# Altium integrated library Altera Cyclone IV E.IntLib: 141 symbols (part 29 of 33)

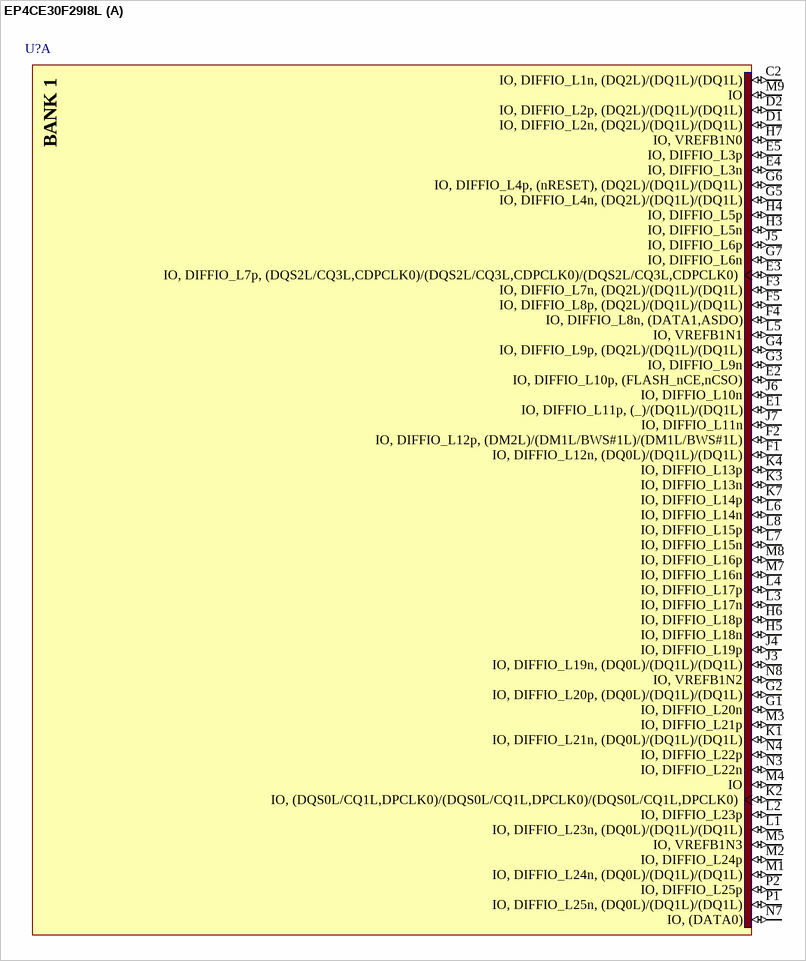
[diagram p160: symbol EP4CE30F29I8L]

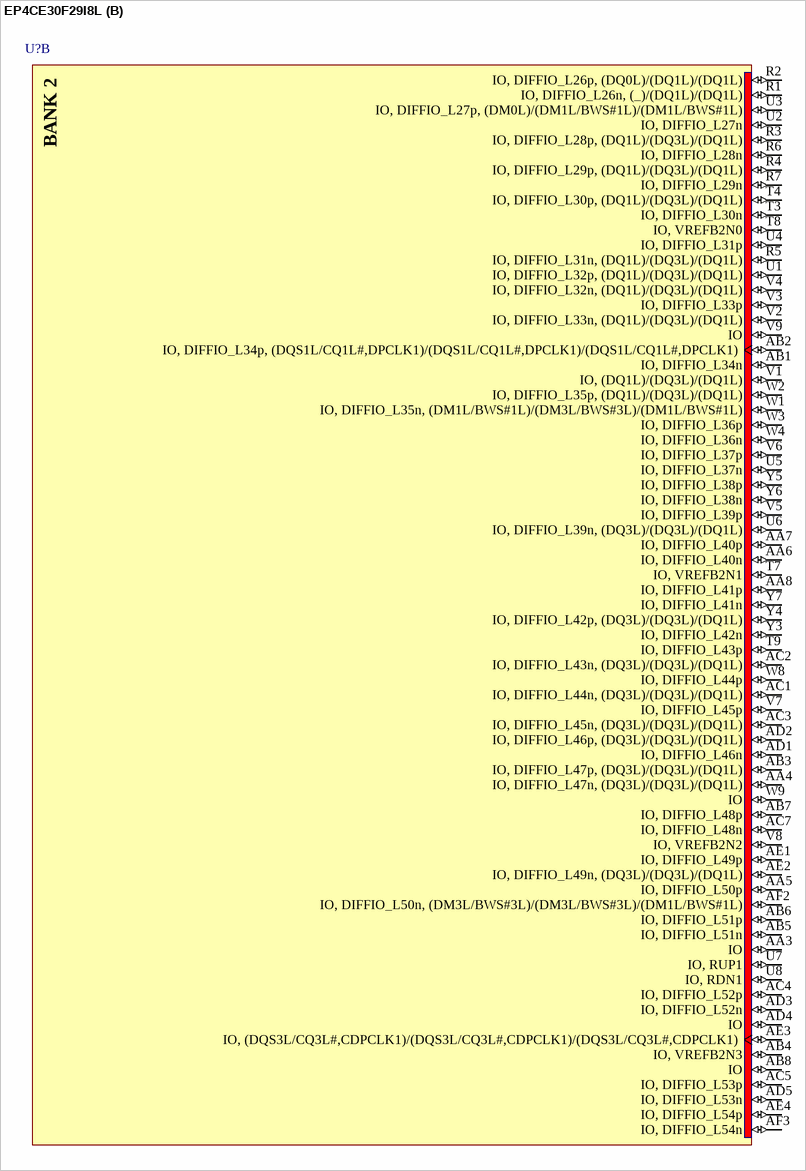
[diagram p161: symbol EP4CE30F29I8L]

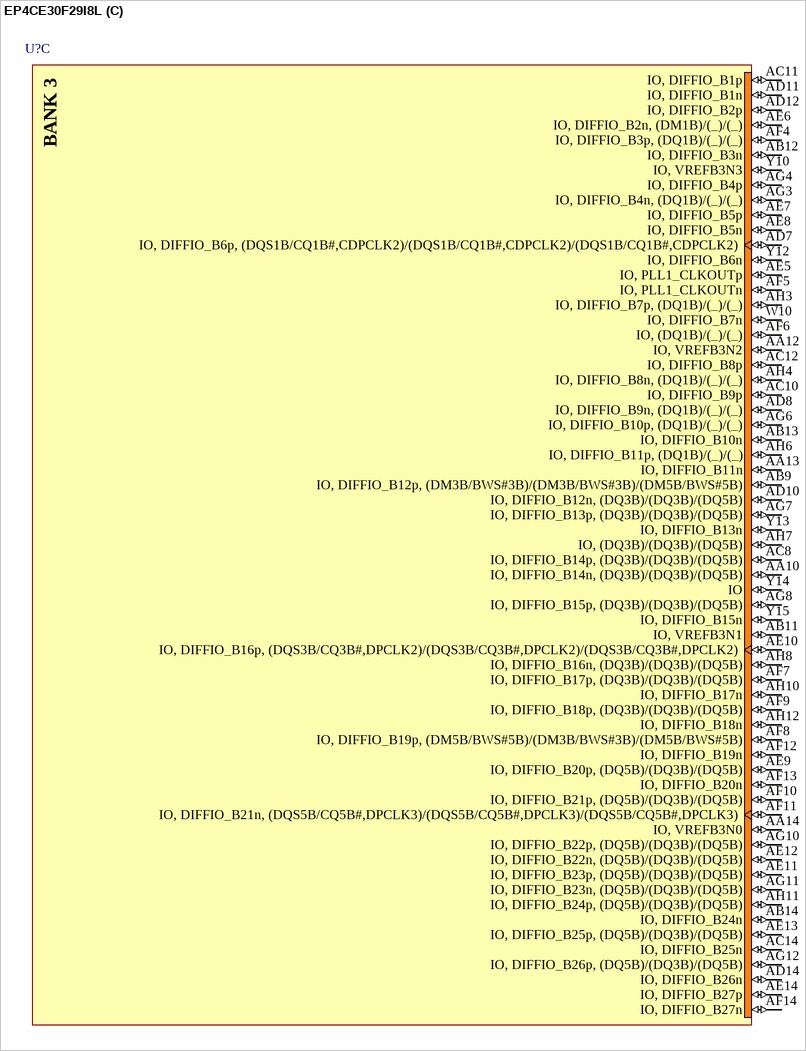
[diagram p162: symbol EP4CE30F29I8L]

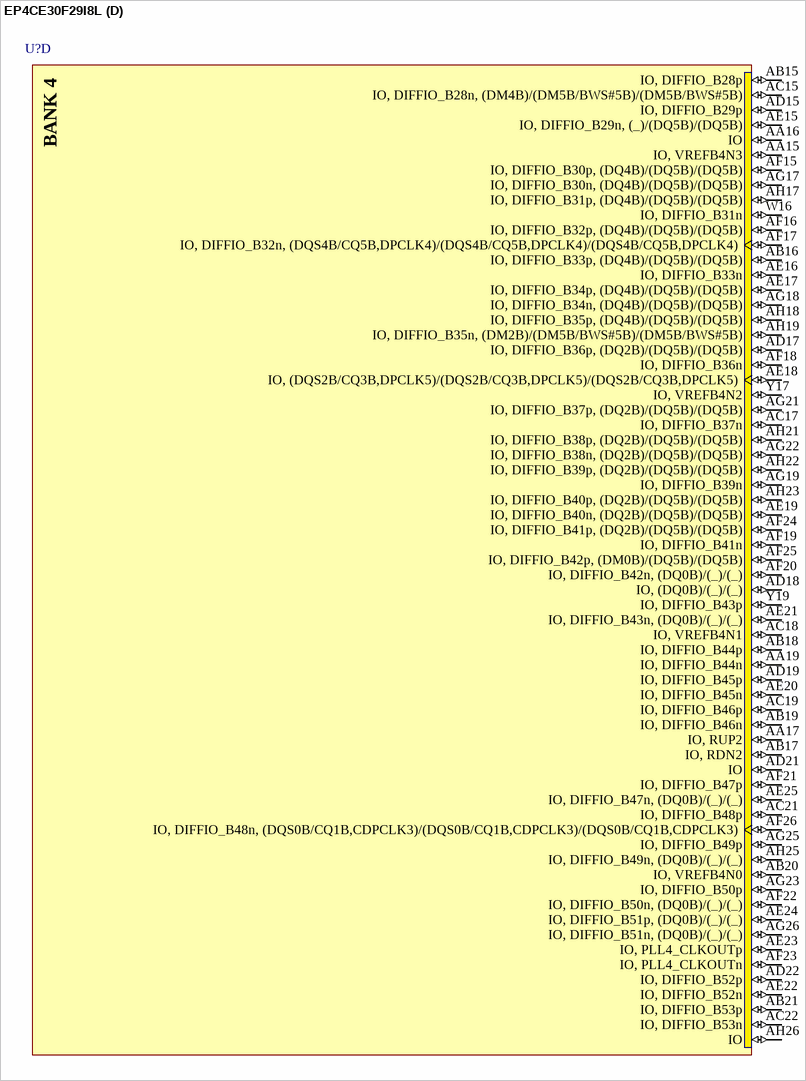
[diagram p163: symbol EP4CE30F29I8L]

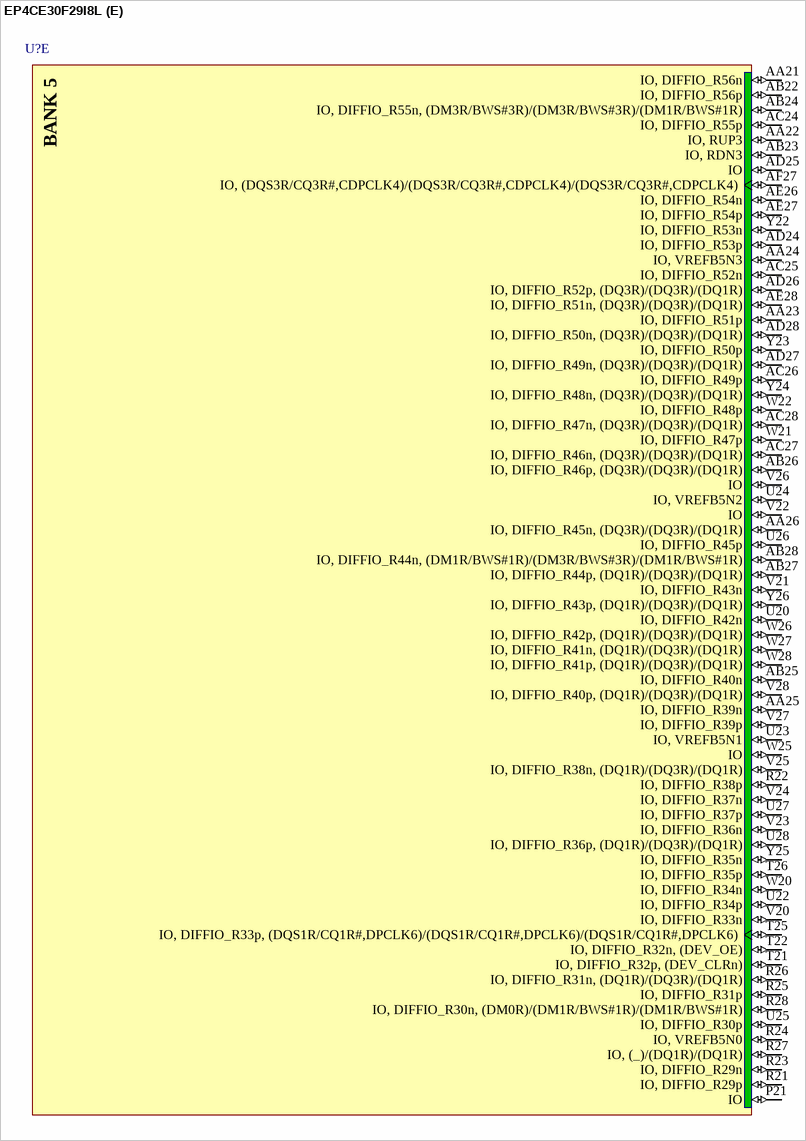
[diagram p164: symbol EP4CE30F29I8L]

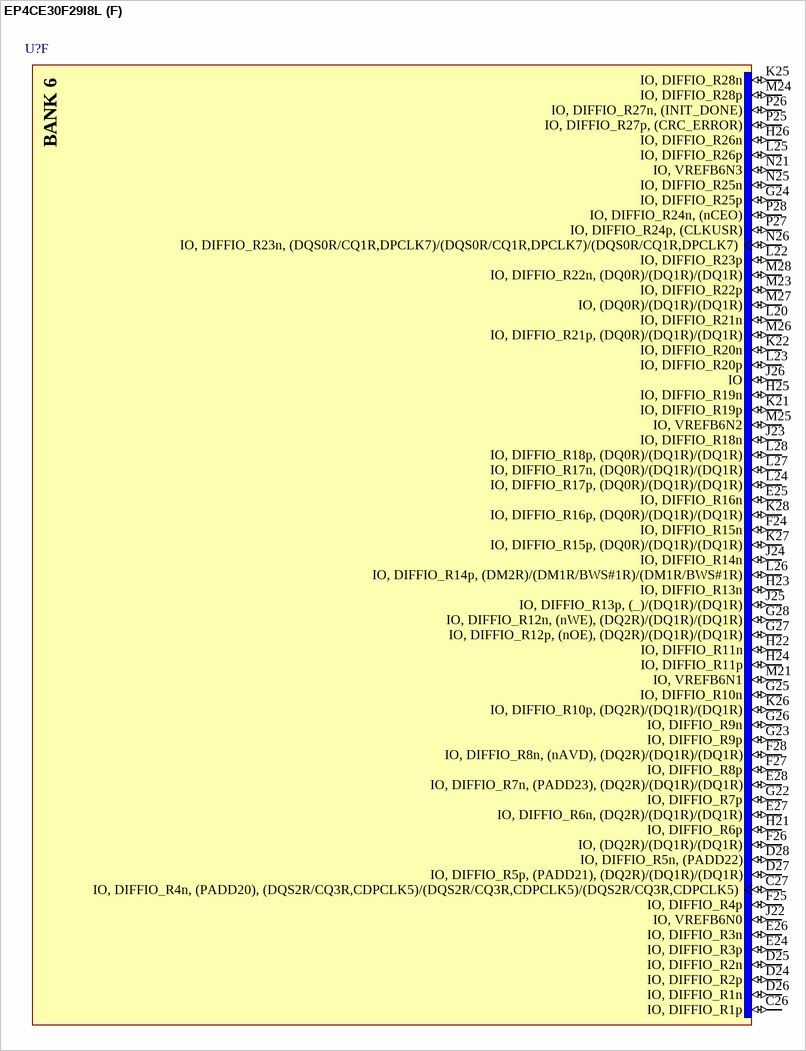
[diagram p165: symbol EP4CE30F29I8L]

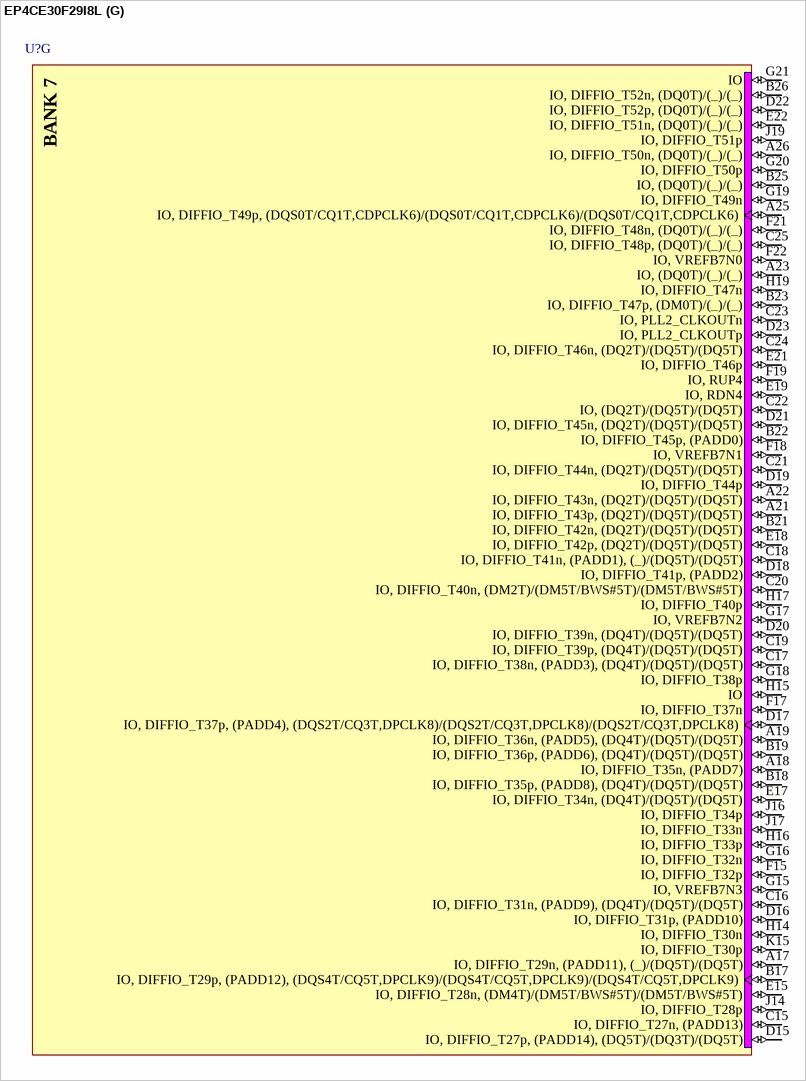
[diagram p166: symbol EP4CE30F29I8L]

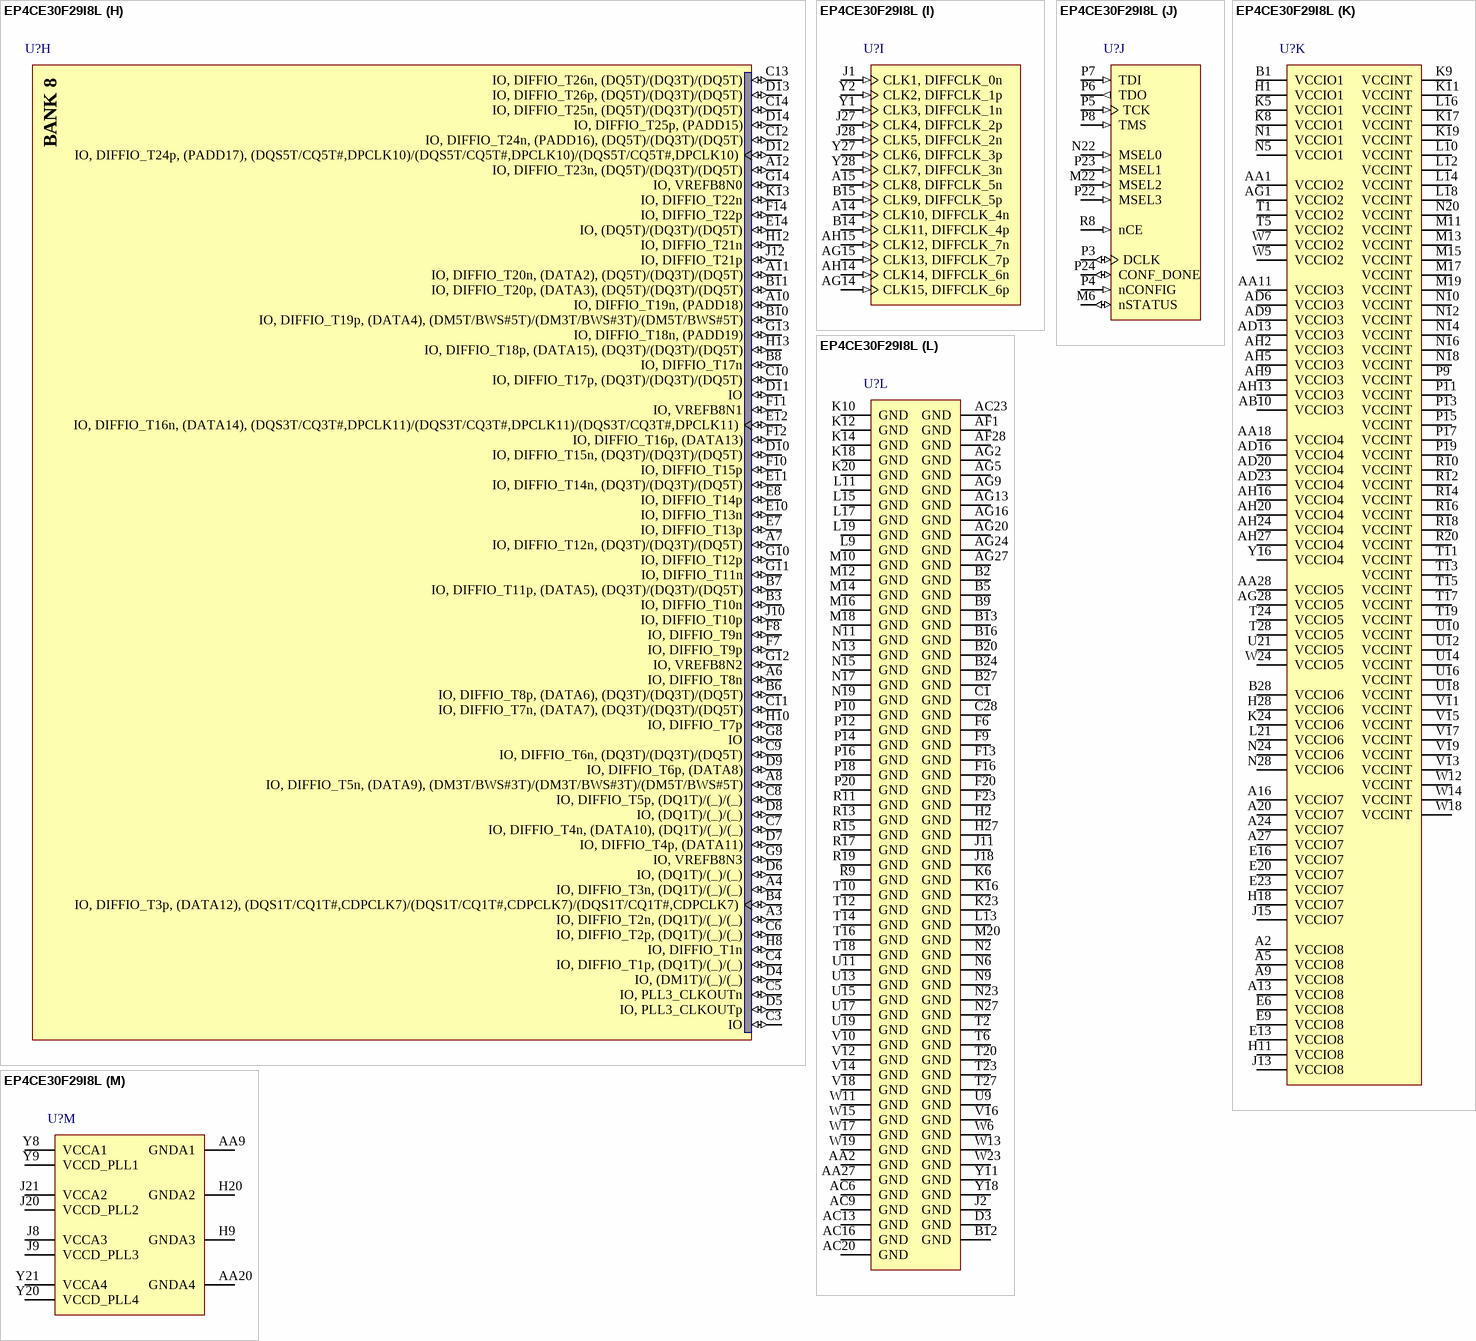
[diagram p167: symbol EP4CE30F29I8L]